# Altium footprint library BYU7SegBoard.PcbLib: 17 footprints (part 1 of 2)
Each footprint in its own frame and in the unit in brackets; x right, y up, seen from the top. Pads: shape width x height; smd on the part's side, far side on the other; paste and mask are expansions set on the pad; w line width, h text height; cw(c..) or ccw(c..) is an arc to the next point about the centre after c.
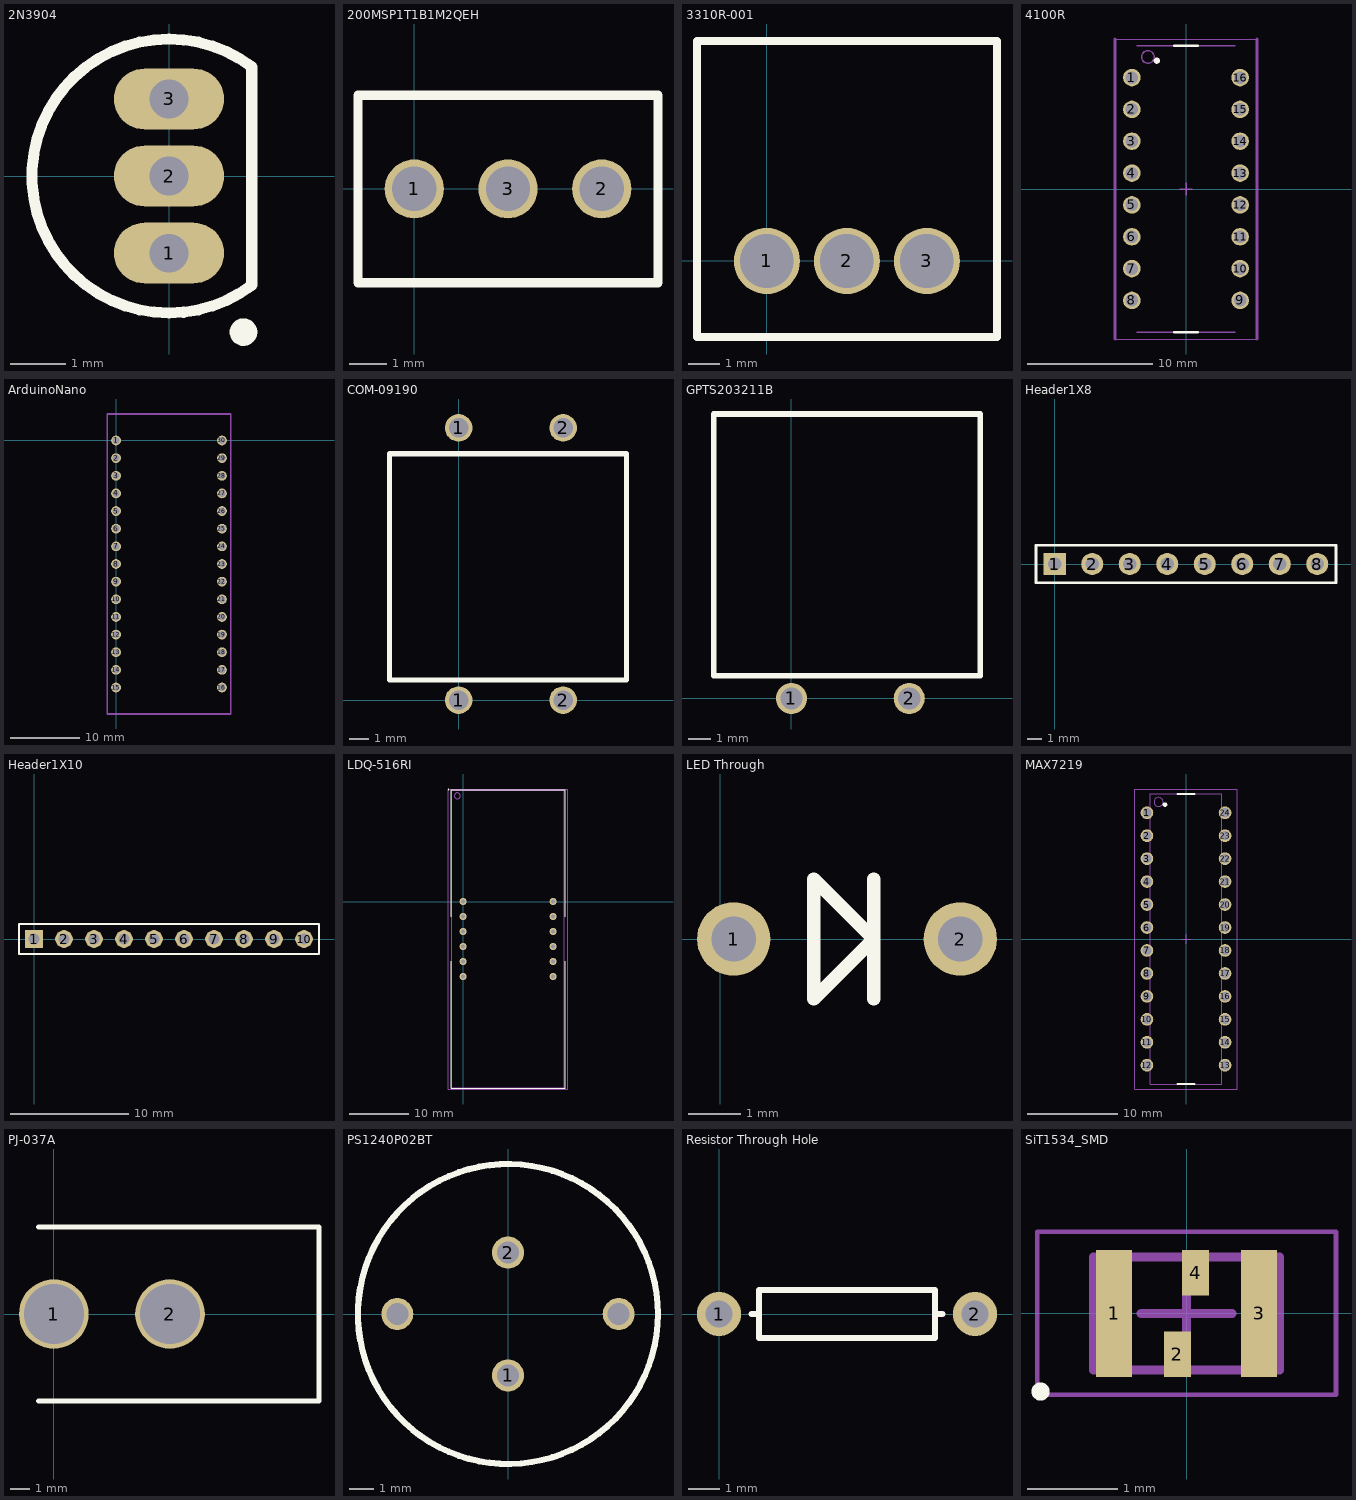
[diagram p0: the footprints below, top view; thin cyan lines are the x and y axes]

## 2N3904 [mm] "TO, Flat Index; 3 In-Line, Axial Leads; Body Dia. 4.5mm; Leads 0.51 x 0.48 mm (max)"
height 6.86
pads (3):
  oval 2x1.1 hole 0.7: 1(0,-1.397) 2(0,0) 3(0,1.397)
Top Overlay:
  circle w0.25: c1.35,-2.83 r0.125
  lines w0.2: 1.5,-1.98 cw(c0,0) 1.5,1.98 1.5,-1.98
Mechanical 13:
  lines w0.1: 1.5,-1.98 cw(c0,0) 1.5,1.98 1.5,-1.98
Mechanical 15:
  lines w0.1: -0.5,0 0.5,0 ; 0,-0.5 0,0.5
3D body: height 6.86, standoff 2.2, extent -2.485,-2.495 1.501,2.495

## 200MSP1T1B1M2QEH [mm]
pads (3):
  round 1.6 hole 1.2: 1(0,0) 2(5.08,0) 3(2.54,0)
Top Overlay:
  lines w0.254: -1.524,-2.54 6.604,-2.54 6.604,2.533 -1.524,2.533 -1.524,-2.54
3D body: height 0, standoff -4.2, extent 1.909,-0.638 3.171,0.639
3D body: height 0, standoff -4.2, extent 4.449,-0.638 5.711,0.639
3D body: height 22.22, standoff 12.88, extent 1.193,-1.902 10.533,1.902
3D body: height 0, standoff -4.2, extent -0.628,-0.635 0.635,0.642
3D body: height 14.22, standoff 8.64, extent -0.003,-2.54 5.077,2.533
3D body: height 8.64, standoff 0, extent -1.524,-2.54 6.604,2.54

## 3310R-001 [mm]
pads (3):
  round 2.1 hole 1.7: 1(0,0) 2(2.54,0) 3(5.08,0)
Top Overlay:
  lines w0.254: -2.219,-2.413 7.306,-2.413 7.306,6.985 -2.219,6.985 -2.219,-2.413
3D body: height 0, standoff -4.2, extent -0.628,-0.635 0.635,0.642
3D body: height 0, standoff -4.2, extent 1.912,-0.635 3.175,0.642
3D body: height 0, standoff -4.2, extent 4.452,-0.635 5.715,0.642
3D body: height 0.25, standoff 0, extent 0.004,0.003 0.004,0.003
3D body: height 0.25, standoff 0, extent 0.004,0.003 0.004,0.003
3D body: height 5.21, standoff 0, extent -2.219,-2.54 7.306,6.985
3D body: height 0.25, standoff 0, extent 13.843,8.382 13.843,8.382
3D body: height 11.56, standoff 5.21, extent -0.504,-0.949 5.846,5.394
3D body: height 17.91, standoff 5.21, extent 1.083,0.638 4.258,3.807

## 4100R [mm] "SOJ, 16-Leads, Body 32.13x8.89mm, Pitch 2.54mm, IPC Low Density"
height 4.58
pads (16):
  round 1.4 hole 1: 1(-4.32,8.89) 2(-4.32,6.35) 3(-4.32,3.81) 4(-4.32,1.27) 5(-4.32,-1.27) 6(-4.32,-3.81) 7(-4.32,-6.35) 8(-4.32,-8.89) 9(4.32,-8.89) 10(4.32,-6.35) 11(4.32,-3.81) 12(4.32,-1.27) 13(4.32,1.27) 14(4.32,3.81) 15(4.32,6.35) 16(4.32,8.89)
Top Overlay:
  circle w0.25: c-2.325,10.235 r0.125
  lines w0.2: -0.95,-11.415 0.95,-11.415 ; -0.95,11.415 0.95,11.415
Mechanical 13:
  circle w0.1: c-3.035,10.53 r0.5
  lines w0.1: -3.935,-11.43 3.935,-11.43 ; -3.935,11.43 3.935,11.43
Mechanical 15:
  lines w0.05: -5.675,-11.965 5.675,-11.965 ; -5.675,11.965 5.675,11.965
  lines w0.1: -0.5,0 0.5,0 ; 0,-0.5 0,0.5
  lines w0.254: -5.675,-11.965 -5.675,11.965 ; 5.675,-11.965 5.675,11.965
3D body: height 4.57, standoff 0, extent -4.645,-11.43 4.645,11.43

## ArduinoNano [mm]
pads (30):
  round 1.4 hole 1: 1(-0.004,0) 2(-0.004,-2.54) 3(-0.004,-5.08) 4(-0.004,-7.62) 5(-0.004,-10.16) 6(-0.004,-12.7) 7(-0.004,-15.24) 8(-0.004,-17.78) 9(-0.004,-20.32) 10(-0.004,-22.86) 11(-0.004,-25.4) 12(-0.004,-27.94) 13(-0.004,-30.48) 14(-0.004,-33.02) 15(-0.004,-35.56) 16(15.236,-35.56) 17(15.236,-33.02) 18(15.236,-30.48) 19(15.236,-27.94) 20(15.236,-25.4) 21(15.236,-22.86) 22(15.236,-20.32) 23(15.236,-17.78) 24(15.236,-15.24) 25(15.236,-12.7) 26(15.236,-10.16) 27(15.236,-7.62) 28(15.236,-5.08) 29(15.236,-2.54) 30(15.236,0)
Mechanical 15:
  lines w0.254: -1.274,-39.37 16.506,-39.37 16.506,3.81 -1.274,3.81 -1.274,-39.37
3D body: height 1.27, standoff 0, extent 14.608,-0.635 15.871,0.643
3D body: height 1.27, standoff 0, extent 14.608,-3.175 15.871,-1.897
3D body: height 1.27, standoff 0, extent 14.608,-5.715 15.871,-4.437
3D body: height 1.27, standoff 0, extent 14.608,-8.255 15.87,-6.977
3D body: height 1.27, standoff 0, extent 14.608,-10.795 15.871,-9.517
3D body: height 1.27, standoff 0, extent 14.608,-13.335 15.871,-12.057
3D body: height 1.27, standoff 0, extent 14.608,-15.875 15.871,-14.597
3D body: height 1.27, standoff 0, extent 14.608,-18.415 15.871,-17.137
3D body: height 1.27, standoff 0, extent 14.608,-20.955 15.871,-19.677
3D body: height 1.27, standoff 0, extent 14.608,-23.495 15.871,-22.217
3D body: height 1.27, standoff 0, extent 14.608,-26.035 15.871,-24.757
3D body: height 1.27, standoff 0, extent 14.608,-28.575 15.871,-27.297
3D body: height 1.27, standoff 0, extent 14.608,-31.115 15.871,-29.837
3D body: height 1.27, standoff 0, extent 14.608,-33.655 15.871,-32.377
3D body: height 1.27, standoff 0, extent 14.608,-36.195 15.871,-34.917
3D body: height 1.27, standoff 0, extent -0.632,-36.195 0.631,-34.917
3D body: height 1.27, standoff 0, extent -0.632,-33.655 0.631,-32.377
3D body: height 1.27, standoff 0, extent -0.632,-31.115 0.63,-29.837
3D body: height 1.27, standoff 0, extent -0.628,-28.575 0.635,-27.297
3D body: height 1.27, standoff 0, extent -0.632,-26.035 0.631,-24.757
3D body: height 1.27, standoff 0, extent -0.632,-23.495 0.63,-22.217
3D body: height 1.27, standoff 0, extent -0.632,-20.955 0.63,-19.677
3D body: height 1.27, standoff 0, extent -0.628,-18.415 0.635,-17.137
3D body: height 1.27, standoff 0, extent -0.632,-15.875 0.631,-14.597
3D body: height 1.27, standoff 0, extent -0.632,-13.335 0.631,-12.057
3D body: height 1.27, standoff 0, extent -0.632,-10.795 0.631,-9.517
3D body: height 1.27, standoff 0, extent -0.632,-8.255 0.63,-6.977
3D body: height 1.27, standoff 0, extent -0.632,-5.715 0.631,-4.437
3D body: height 1.27, standoff 0, extent -0.632,-3.175 0.631,-1.897
3D body: height 1.27, standoff 0, extent -0.632,-0.635 0.631,0.643
3D body: height 2.54, standoff -5.08, extent 14.732,-0.507 15.744,0.507
3D body: height 2.54, standoff -5.08, extent 14.732,-3.047 15.744,-2.033
3D body: height 2.54, standoff -5.08, extent 14.732,-5.587 15.744,-4.573
3D body: height 2.54, standoff -5.08, extent 14.732,-8.127 15.744,-7.113
3D body: height 2.54, standoff -5.08, extent 14.732,-10.667 15.744,-9.653
3D body: height 2.54, standoff -5.08, extent 14.732,-13.207 15.744,-12.193
3D body: height 2.54, standoff -5.08, extent 14.732,-15.747 15.744,-14.733
3D body: height 2.54, standoff -5.08, extent 14.732,-18.287 15.744,-17.273
3D body: height 2.54, standoff -5.08, extent 14.732,-20.827 15.744,-19.813
3D body: height 2.54, standoff -5.08, extent 14.732,-23.367 15.744,-22.353
3D body: height 2.54, standoff -5.08, extent 14.732,-25.907 15.744,-24.893
3D body: height 2.54, standoff -5.08, extent 14.732,-28.447 15.744,-27.433
3D body: height 2.54, standoff -5.08, extent 14.732,-30.987 15.744,-29.973
3D body: height 2.54, standoff -5.08, extent 14.732,-33.527 15.744,-32.513
3D body: height 2.54, standoff -5.08, extent 14.732,-36.067 15.744,-35.053
3D body: height 2.54, standoff -5.08, extent -0.508,-36.067 0.504,-35.053
3D body: height 2.54, standoff -5.08, extent -0.508,-33.527 0.504,-32.513
3D body: height 2.54, standoff -5.08, extent -0.508,-30.987 0.503,-29.973
3D body: height 2.54, standoff -5.08, extent -0.498,-28.447 0.514,-27.433
3D body: height 2.54, standoff -5.08, extent -0.508,-25.907 0.504,-24.893
3D body: height 2.54, standoff -5.08, extent -0.508,-23.367 0.504,-22.353
3D body: height 2.54, standoff -5.08, extent -0.5,-20.827 0.512,-19.813
3D body: height 2.54, standoff -5.08, extent -0.502,-18.287 0.51,-17.273
3D body: height 2.54, standoff -5.08, extent -0.508,-15.747 0.504,-14.733
3D body: height 2.54, standoff -5.08, extent -0.504,-13.207 0.508,-12.193
3D body: height 2.54, standoff -5.08, extent -0.508,-10.667 0.504,-9.653
3D body: height 2.54, standoff -5.08, extent -0.508,-8.127 0.504,-7.113
3D body: height 2.54, standoff -5.08, extent -0.506,-5.587 0.506,-4.573
3D body: height 2.54, standoff -5.08, extent -0.508,-3.047 0.504,-2.033
3D body: height 2.54, standoff -5.08, extent 14.732,-0.507 15.744,0.507
3D body: height 2.54, standoff -5.08, extent -0.508,-0.507 0.504,0.507
3D body: height 0.25, standoff 0, extent 11.426,-17.78 11.426,-17.78
3D body: height 7.62, standoff 1.27, extent -1.274,-39.37 16.506,3.81

## COM-09190 [mm]
pads (4):
  round 1.4 hole 1: 1(0,0) 1(0,13.816) 2(5.3,0) 2(5.3,13.816)
Top Overlay:
  lines w0.254: -3.5,1.016 8.5,1.016 8.5,12.5 -3.5,12.5 -3.5,1.016
3D body: height 3.25, standoff -2.2, extent 4.673,13.174 5.935,14.451
3D body: height 3.25, standoff -2.2, extent -0.627,13.174 0.635,14.451
3D body: height 9.1, standoff 6.5, extent -0.15,4.05 5.15,9.35
3D body: height 3.25, standoff -2.2, extent -0.627,-0.635 0.635,0.642
3D body: height 3.25, standoff -2.2, extent 4.673,-0.635 5.935,0.642
3D body: height 6.5, standoff 0, extent -3.5,0.7 8.5,13

## GPTS203211B [mm]
pads (2):
  round 1.4 hole 1: 1(0,0) 2(5.3,0)
Top Overlay:
  lines w0.254: -3.5,1.016 8.5,1.016 8.5,12.8 -3.5,12.8 -3.5,1.016
3D body: height 9.1, standoff 6.5, extent -0.15,4.05 5.15,9.35
3D body: height 6.5, standoff 0, extent -3.5,0.7 8.5,12.7
3D body: height 3.25, standoff -2.2, extent -0.627,-0.635 0.635,0.642
3D body: height 3.25, standoff -2.2, extent 4.673,-0.635 5.935,0.642

## Header1X8 [mm] "Connector; Header; 8 Position"
pads (8):
  rect 1.5x1.5 hole 0.9: 1(0,0)
  round 1.5 hole 0.9: 2(2.54,0) 3(5.08,0) 4(7.62,0) 5(10.16,0) 6(12.7,0) 7(15.24,0) 8(17.78,0)
Top Overlay:
  lines w0.2: -1.27,-1.27 -1.27,1.27 19.05,1.27 19.05,-1.27 -1.27,-1.27
3D body: height 1.91, standoff -1.52, extent 6.99,-0.634 8.255,0.634
3D body: height 2.92, standoff 0.38, extent 6.35,-3.175 8.89,-0.634
3D body: height 2.28, standoff 1.02, extent 6.988,-9.017 8.252,-3.175
3D body: height 1.91, standoff -1.52, extent 4.45,-0.634 5.715,0.634
3D body: height 2.92, standoff 0.38, extent 3.81,-3.175 6.35,-0.634
3D body: height 2.28, standoff 1.02, extent 4.448,-9.017 5.712,-3.175
3D body: height 1.91, standoff -1.52, extent -0.63,-0.634 0.635,0.634
3D body: height 2.92, standoff 0.38, extent -1.27,-3.175 1.27,-0.634
3D body: height 2.28, standoff 1.02, extent -0.632,-9.017 0.632,-3.175
3D body: height 2.28, standoff 1.02, extent 1.908,-9.017 3.172,-3.175
3D body: height 2.92, standoff 0.38, extent 1.27,-3.175 3.81,-0.634
3D body: height 1.91, standoff -1.52, extent 1.91,-0.634 3.175,0.634
3D body: height 1.91, standoff -1.52, extent 17.15,-0.634 18.415,0.634
3D body: height 2.92, standoff 0.38, extent 16.51,-3.175 19.05,-0.634
3D body: height 2.28, standoff 1.02, extent 17.148,-9.017 18.412,-3.175
3D body: height 2.28, standoff 1.02, extent 14.608,-9.017 15.872,-3.175
3D body: height 1.91, standoff -1.52, extent 14.61,-0.634 15.875,0.634
3D body: height 2.92, standoff 0.38, extent 13.97,-3.175 16.51,-0.634
3D body: height 2.28, standoff 1.02, extent 12.068,-9.017 13.332,-3.175
3D body: height 1.91, standoff -1.52, extent 12.07,-0.634 13.335,0.634
3D body: height 2.92, standoff 0.38, extent 11.43,-3.175 13.97,-0.634
3D body: height 2.28, standoff 1.02, extent 9.528,-9.017 10.792,-3.175
3D body: height 1.91, standoff -1.52, extent 9.53,-0.634 10.795,0.634
3D body: height 2.92, standoff 0.38, extent 8.89,-3.175 11.43,-0.634

## Header1X10 [mm] "Connector; Header; 10 Position"
pads (10):
  rect 1.5x1.5 hole 0.9: 1(0,0)
  round 1.5 hole 0.9: 2(2.54,0) 3(5.08,0) 4(7.62,0) 5(10.16,0) 6(12.7,0) 7(15.24,0) 8(17.78,0) 9(20.32,0) 10(22.86,0)
Top Overlay:
  lines w0.2: -1.27,-1.27 -1.27,1.27 24.13,1.27 24.13,-1.27 -1.27,-1.27
3D body: height 1.91, standoff -1.52, extent 6.99,-0.634 8.255,0.634
3D body: height 2.92, standoff 0.38, extent 6.35,-3.175 8.89,-0.634
3D body: height 2.28, standoff 1.02, extent 6.988,-9.017 8.252,-3.175
3D body: height 1.91, standoff -1.52, extent 4.45,-0.634 5.715,0.634
3D body: height 2.92, standoff 0.38, extent 3.81,-3.175 6.35,-0.634
3D body: height 2.28, standoff 1.02, extent 4.448,-9.017 5.712,-3.175
3D body: height 1.91, standoff -1.52, extent -0.63,-0.634 0.635,0.634
3D body: height 2.92, standoff 0.38, extent -1.27,-3.175 1.27,-0.634
3D body: height 2.28, standoff 1.02, extent -0.632,-9.017 0.632,-3.175
3D body: height 2.28, standoff 1.02, extent 1.908,-9.017 3.172,-3.175
3D body: height 2.92, standoff 0.38, extent 1.27,-3.175 3.81,-0.634
3D body: height 1.91, standoff -1.52, extent 1.91,-0.634 3.175,0.634
3D body: height 1.91, standoff -1.52, extent 17.15,-0.634 18.415,0.634
3D body: height 2.92, standoff 0.38, extent 16.51,-3.175 19.05,-0.634
3D body: height 2.28, standoff 1.02, extent 17.148,-9.017 18.412,-3.175
3D body: height 2.28, standoff 1.02, extent 14.608,-9.017 15.872,-3.175
3D body: height 1.91, standoff -1.52, extent 14.61,-0.634 15.875,0.634
3D body: height 2.92, standoff 0.38, extent 13.97,-3.175 16.51,-0.634
3D body: height 2.28, standoff 1.02, extent 12.068,-9.017 13.332,-3.175
3D body: height 1.91, standoff -1.52, extent 12.07,-0.634 13.335,0.634
3D body: height 2.92, standoff 0.38, extent 11.43,-3.175 13.97,-0.634
3D body: height 2.28, standoff 1.02, extent 9.528,-9.017 10.792,-3.175
3D body: height 1.91, standoff -1.52, extent 9.53,-0.634 10.795,0.634
3D body: height 2.92, standoff 0.38, extent 8.89,-3.175 11.43,-0.634
3D body: height 2.92, standoff 0.38, extent 19.05,-3.175 21.59,-0.634
3D body: height 1.91, standoff -1.52, extent 19.69,-0.634 20.955,0.634
3D body: height 2.28, standoff 1.02, extent 19.688,-9.017 20.952,-3.175
3D body: height 2.28, standoff 1.02, extent 22.228,-9.017 23.492,-3.175
3D body: height 2.92, standoff 0.38, extent 21.59,-3.175 24.13,-0.634
3D body: height 1.91, standoff -1.52, extent 22.23,-0.634 23.495,0.634

## LDQ-516RI [mm]
pads (12):
  round 1.2 hole 0.7: 1(0,0) 2(0,-2.54) 3(0,-5.08) 4(0,-7.62) 5(0,-10.16) 6(0,-12.7) 7(15.24,-12.7) 8(15.24,-10.16) 9(15.24,-7.62) 10(15.24,-5.08) 11(15.24,-2.54) 12(15.24,0)
Top Overlay:
  circle w0.1: c-2.43,18.95 r0.05
  lines w0.2: -2.03,-10.15 -2.03,-31.65 17.27,-31.65 17.27,-10.15 ; -2.03,-2.55 -2.03,18.95 17.27,18.95 17.27,-2.55
Mechanical 13:
  circle w0.1: c-0.98,17.9 r0.5
  lines w0.1: -1.88,-31.5 -1.88,18.8 17.12,18.8 17.12,-31.5 -1.88,-31.5
Mechanical 15:
  lines w0.05: -2.465,-31.75 -2.465,19.05 17.705,19.05 17.705,-31.75 -2.465,-31.75
3D body "LDQ-N516RI.step": height 8, standoff 0, extent -1.88,-31.5 17.12,18.8

## LED Through [mm]
pads (2):
  round 1.4 hole 0.85: 1(0.254,0) 2(4.572,0)
Top Overlay:
  lines w0.254: 2.921,-1.143 2.921,1.143 2.921,0 ; 2.921,0 1.778,1.143 1.778,-1.143 2.921,0
3D body: height 5.59, standoff 0.51, extent 1.092,-2.533 3.759,2.541
3D body: height 0.64, standoff -1.91, extent 4.198,-0.377 4.957,0.384
3D body: height 3.41, standoff 0.76, extent 3.474,-0.377 5.056,0.384
3D body: height 3.41, standoff 0.76, extent -0.228,-0.377 1.354,0.384
3D body: height 0.64, standoff -1.91, extent -0.124,-0.38 0.635,0.38

## MAX7219 [mm] "SOJ, 24-Leads, Body 32.13x8.89mm, Pitch 2.54mm, IPC Low Density"
height 4.58
pads (24):
  round 1.4 hole 1: 1(-4.32,13.97) 2(-4.32,11.43) 3(-4.32,8.89) 4(-4.32,6.35) 5(-4.32,3.81) 6(-4.32,1.27) 7(-4.32,-1.27) 8(-4.32,-3.81) 9(-4.32,-6.35) 10(-4.32,-8.89) 11(-4.32,-11.43) 12(-4.32,-13.97) 13(4.32,-13.97) 14(4.32,-11.43) 15(4.32,-8.89) 16(4.32,-6.35) 17(4.32,-3.81) 18(4.32,-1.27) 19(4.32,1.27) 20(4.32,3.81) 21(4.32,6.35) 22(4.32,8.89) 23(4.32,11.43) 24(4.32,13.97)
Top Overlay:
  circle w0.25: c-2.325,14.87 r0.125
  lines w0.2: -0.95,-16.05 0.95,-16.05 ; -0.95,16.05 0.95,16.05
Mechanical 13:
  circle w0.1: c-3.035,15.165 r0.5
  lines w0.1: -3.935,-16.065 -3.935,16.065 3.935,16.065 3.935,-16.065 -3.935,-16.065
Mechanical 15:
  lines w0.05: -5.675,-16.6 -5.675,16.6 5.675,16.6 5.675,-16.6 -5.675,-16.6
  lines w0.1: -0.5,0 0.5,0 ; 0,-0.5 0,0.5
3D body "SOJ254P890X457-24M.step": height 4.57, standoff 0, extent -4.645,-16.065 4.645,16.065

## PJ-037A [mm]
pads (2):
  round 3.6 hole 3.1: 1(0,0) 2(6,0)
Top Overlay:
  lines w0.254: -0.8,-4.5 13.7,-4.5 13.7,4.5 -0.8,4.5
3D body: height 11, standoff 0, extent -0.8,-4.5 13.7,4.5

## PS1240P02BT [mm] "Buzzer"
pads (4):
  round 1.3 hole 0.9: 1(0,-2.5) 2(0,2.5) ""(-4.5,0) ""(4.5,0)
Top Overlay:
  circle w0.254: c0,0 r6.1
3D body: height 6.5, standoff 0, extent -6.1,-6.097 6.1,6.097

## Resistor Through Hole [mm]
pads (2):
  round 1.4 hole 0.85: 1(0,0) 2(8.128,0)
Top Overlay:
  lines w0.2: 1.041,0 1.27,0 ; 7.087,0 6.858,0 ; 6.858,0 6.858,-0.762 1.27,-0.762 1.27,0.762 6.858,0.762 6.858,0
3D body: height 1.27, standoff 0.51, extent 5.463,-0.377 8.003,0.384
3D body: height 1.27, standoff 0.51, extent -0.127,-0.377 2.413,0.384
3D body: height 0.64, standoff -1.91, extent -0.378,-0.38 0.381,0.38
3D body: height 0.64, standoff -1.91, extent 7.754,-0.377 8.513,0.384
3D body: height 1.77, standoff 0, extent 1.499,-0.889 6.579,0.886

## SiT1534_SMD [mm] "Chip Oscillator, 4-Leads, Body 2.00x1.20mm, IPC Medium Density"
height 0.55
pads (4):
  rect 0.4x1.4 smd: 1(-0.8,0) 3(0.8,0)
  rect 0.3x0.5 smd: 2(-0.1,-0.45) 4(0.1,0.45)
Top Overlay:
  circle w0.1: c-1.612,-0.862 r0.05
Mechanical 13:
  lines w0.1: -1.025,-0.625 -1.025,0.625 1.025,0.625 1.025,-0.625 -1.025,-0.625
Mechanical 15:
  lines w0.05: -1.65,-0.9 -1.65,0.9 1.65,0.9 1.65,-0.9 -1.65,-0.9
  lines w0.1: -0.5,0 0.5,0 ; 0,-0.5 0,0.5
3D body "SiT1534_SMD.step": height 0.55, standoff 0, extent -1.025,-0.625 1.025,0.625